# EAGLE library part 2X4-* (library jt-con-tyco)
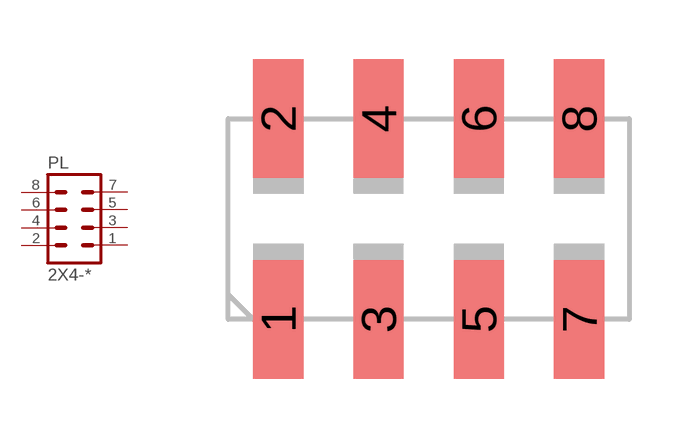
[diagram p13: symbol with the pads of AMP-1241050-4; footprint AMP-1241050-4]

Designator prefix PL

## 2X4-1241050  [AMP-1241050-4]
1  1  pas
2  2  pas
3  3  pas
4  4  pas
5  5  pas
6  6  pas
7  7  pas
8  8  pas

## Footprint AMP-1241050-4 (pad centres in mm)
smd 1.27 x 3: 1 -3.81,-2.54; 2 -3.81,2.54; 3 -1.27,-2.54; 4 -1.27,2.54; 5 1.27,-2.54; 6 1.27,2.54; 7 3.81,-2.54; 8 3.81,2.54